# Altium footprint library 403_Library.PcbLib: 5 footprints
Each footprint in its own frame and in the unit in brackets; x right, y up, seen from the top. Pads: shape width x height; smd on the part's side, far side on the other; paste and mask are expansions set on the pad; w line width, h text height; cw(c..) or ccw(c..) is an arc to the next point about the centre after c.
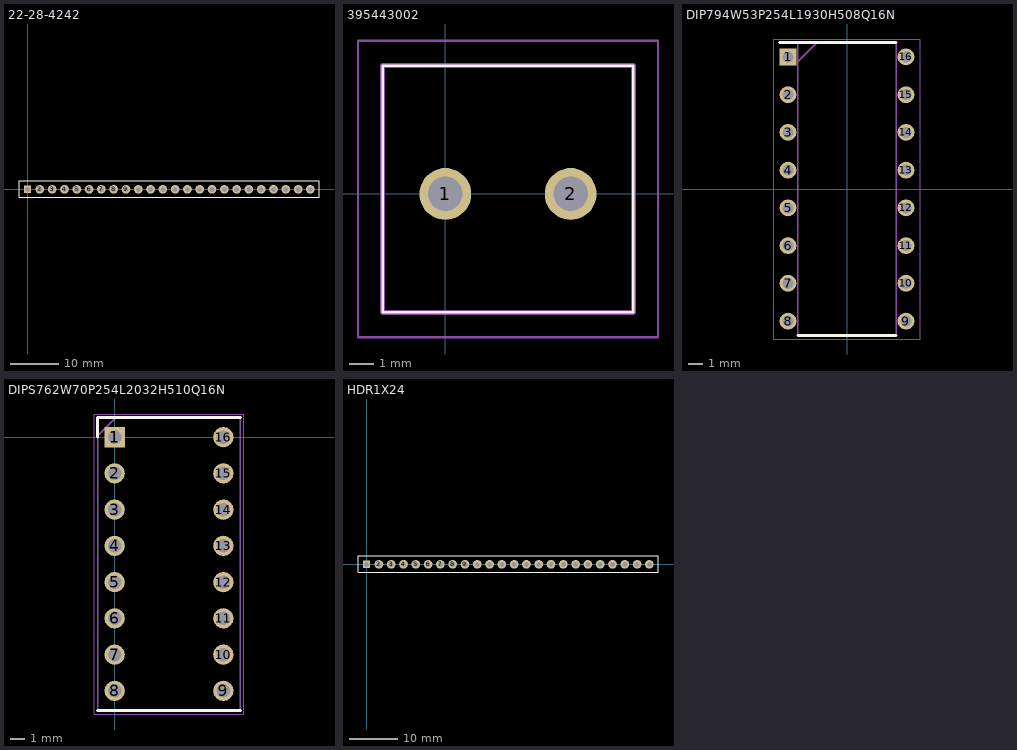
[diagram p0: the footprints below, top view; thin cyan lines are the x and y axes]

## 22-28-4242 [mm] "Connector; Male Pin Header; 24 Position; Molex 22-28-4242"
pads (24):
  rect 1.5x1.5 hole 1.02: 1(0,0)
  round 1.8 hole 1.02: 2(2.54,0) 3(5.08,0) 4(7.62,0) 5(10.16,0) 6(12.7,0) 7(15.24,0) 8(17.78,0) 9(20.32,0) 10(22.86,0) 11(25.4,0) 12(27.94,0) 13(30.48,0) 14(33.02,0) 15(35.56,0) 16(38.1,0) 17(40.64,0) 18(43.18,0) 19(45.72,0) 20(48.26,0) 21(50.8,0) 22(53.34,0) 23(55.88,0) 24(58.42,0)
Top Overlay:
  lines w0.2: -1.778,-1.651 60.198,-1.651 60.198,1.778 0.889,1.778 -1.778,1.778 -1.778,-1.651
3D body "MOLEX 22-28-4242 v3.step": height 9.78, standoff -3.05, extent -1.27,-1.22 59.69,1.27

## 395443002 [mm] "Molex 395443002"
pads (2):
  round 2.1 hole 1.4: 1(0,0) 2(5.08,0)
Top Overlay:
  lines w0.1: -2.54,-4.8 7.62,-4.8 7.62,5.2 -2.54,5.2 -2.54,-4.8
Mechanical 13:
  lines w0.2: -2.54,-4.8 7.62,-4.8 7.62,5.2 -2.54,5.2 -2.54,-4.8
Mechanical 15:
  lines w0.1: -3.54,-5.8 8.62,-5.8 8.62,6.2 -3.54,6.2 -3.54,-5.8
3D body "39544-3002.stp": height 14.5, standoff -5, extent -2.54,-4.8 7.62,5.2

## DIP794W53P254L1930H508Q16N [mm]
pads (16):
  rect 1.13x1.13 hole 0.73: 1(-3.97,8.89)
  round 1.13 hole 0.73: 2(-3.97,6.35) 3(-3.97,3.81) 4(-3.97,1.27) 5(-3.97,-1.27) 6(-3.97,-3.81) 7(-3.97,-6.35) 8(-3.97,-8.89) 9(3.97,-8.89) 10(3.97,-6.35) 11(3.97,-3.81) 12(3.97,-1.27) 13(3.97,1.27) 14(3.97,3.81) 15(3.97,6.35) 16(3.97,8.89)
Top Overlay:
  lines w0.2: -4.535,9.845 3.3,9.845 ; -3.3,-9.845 3.3,-9.845
Mechanical 13:
  lines w0.1: -3.3,8.575 -2.03,9.845 ; -3.3,-9.845 -3.3,9.845 3.3,9.845 3.3,-9.845 -3.3,-9.845
Mechanical 15:
  lines w0.05: -4.945,-10.095 -4.945,10.095 4.945,10.095 4.945,-10.095 -4.945,-10.095
3D body "DAC714P.stp": height 5.08, standoff -3.5, extent -4.102,-9.653 4.102,9.653

## DIPS762W70P254L2032H510Q16N [mm]
pads (16):
  rect 1.425x1.425 hole 0.95: 1(0,0)
  round 1.425 hole 0.95: 2(0,-2.54) 3(0,-5.08) 4(0,-7.62) 5(0,-10.16) 6(0,-12.7) 7(0,-15.24) 8(0,-17.78) 9(7.62,-17.78) 10(7.62,-15.24) 11(7.62,-12.7) 12(7.62,-10.16) 13(7.62,-7.62) 14(7.62,-5.08) 15(7.62,-2.54) 16(7.62,0)
Top Overlay:
  lines w0.2: -1.19,-19.15 8.81,-19.15 ; -1.19,0 -1.19,1.37 8.81,1.37
Mechanical 13:
  lines w0.1: -1.19,0.1 0.08,1.37 ; -1.19,-19.15 -1.19,1.37 8.81,1.37 8.81,-19.15 -1.19,-19.15
Mechanical 15:
  lines w0.05: -1.44,-19.4 -1.44,1.62 9.06,1.62 9.06,-19.4 -1.44,-19.4
3D body "1-2199298-4.stp": height 2.26, standoff -5.84, extent -1.19,-19.05 8.81,1.27

## HDR1X24 [mm] "Connector; Header; 24 Position"
pads (24):
  rect 1.5x1.5 hole 1.02: 1(0,0)
  round 1.8 hole 1.02: 2(2.54,0) 3(5.08,0) 4(7.62,0) 5(10.16,0) 6(12.7,0) 7(15.24,0) 8(17.78,0) 9(20.32,0) 10(22.86,0) 11(25.4,0) 12(27.94,0) 13(30.48,0) 14(33.02,0) 15(35.56,0) 16(38.1,0) 17(40.64,0) 18(43.18,0) 19(45.72,0) 20(48.26,0) 21(50.8,0) 22(53.34,0) 23(55.88,0) 24(58.42,0)
Top Overlay:
  lines w0.2: -1.778,-1.651 60.198,-1.651 60.198,1.778 0.889,1.778 -1.778,1.778 -1.778,-1.651
3D body "Teensy41Header_3M_ 929974-01-24-RK v2.step": height 8.26, standoff -3.18, extent -1.27,-1.25 59.69,1.25